# EAGLE library part S16B-PH-* (library jst-ph1)
Wire-to-Board 2.0mm pitch side mount connector Source: http://www.jst-mfg.com/product/pdf/jpn/PH.pdf http://www.jst-mfg.com/product/detail.php?series=199
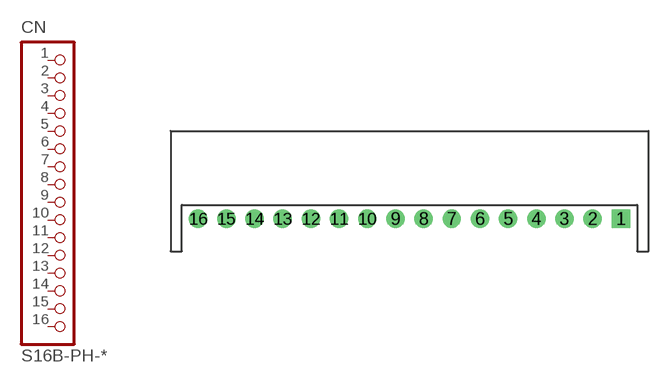
[diagram p21: symbol with the pads of S16B-PH-K-S; footprint S16B-PH-K-S]

Designator prefix CN

## S16B-PH-K-S  [S16B-PH-K-S]
1  1  pas
2  2  pas
3  3  pas
4  4  pas
5  5  pas
6  6  pas
7  7  pas
8  8  pas
9  9  pas
10  10  pas
11  11  pas
12  12  pas
13  13  pas
14  14  pas
15  15  pas
16  16  pas

## Footprint S16B-PH-K-S (pad centres in mm)
drill 0.8 square: 1 15,0
drill 0.8: 2 13,0; 3 11,0; 4 9,0; 5 7,0; 6 5,0; 7 3,0; 8 1,0; 9 -1,0; 10 -3,0; 11 -5,0; 12 -7,0; 13 -9,0; 14 -11,0; 15 -13,0; 16 -15,0